# Altium footprint library lib_driver.pcblib: 30 footprints (part 1 of 5)
Each footprint in its own frame and in the unit in brackets; x right, y up, seen from the top. Pads: shape width x height; smd on the part's side, far side on the other; paste and mask are expansions set on the pad; w line width, h text height; cw(c..) or ccw(c..) is an arc to the next point about the centre after c.
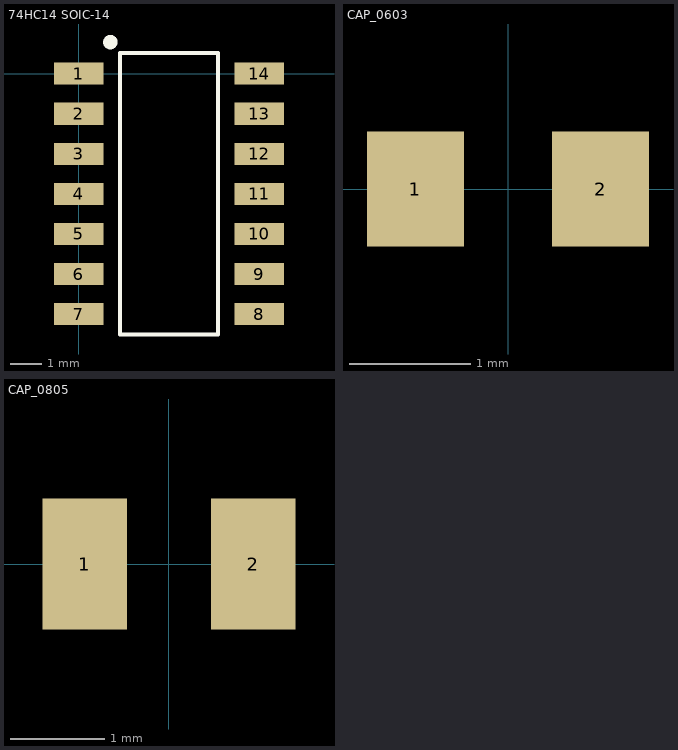
[diagram p0: the footprints below, top view; thin cyan lines are the x and y axes]

## 74HC14 SOIC-14 [mm] "Schmitt trigger, inverter, 14 pins, 6 inputs, MC74HC14ADG"
height 1.5
pads (14):
  rect 1.58x0.7 smd: 1(0,0) 2(0,-1.27) 3(0,-2.54) 4(0,-3.81) 5(0,-5.08) 6(0,-6.35) 7(0,-7.62) 8(5.72,-7.62) 9(5.72,-6.35) 10(5.72,-5.08) 11(5.72,-3.81) 12(5.72,-2.54) 13(5.72,-1.27) 14(5.72,0)
Top Overlay:
  circle w0.254: c1,1 r0.1
  lines w0.127: 1.3,-8.275 1.3,0.66 4.42,0.66 4.42,-8.275 1.3,-8.275
3D body "User Library-SOIC-14.STEP": height 1.75, standoff 0, extent -0.125,-8.175 5.875,0.575

## CAP_0603 [mm]
pads (2):
  rect 0.8x0.95 smd: 1(-0.765,0) 2(0.765,0)
3D body "CAP_0603_(NOVI).step": height 0.5, standoff 0, extent -0.8,-0.4 0.8,0.4

## CAP_0805 [mm] "Chip Capacitor; Body 2.0 x 1.2 mm (LxW typ)"
height 1.1
pads (2):
  rect 0.9x1.4 smd: 1(-0.9,0) 2(0.9,0)
3D body "CAP_0805.STEP": height 0.78, standoff 0, extent -1.003,-0.622 0.997,0.628